# EAGLE library part ATMEGA328PB (library Bulkhead Flight Computer)
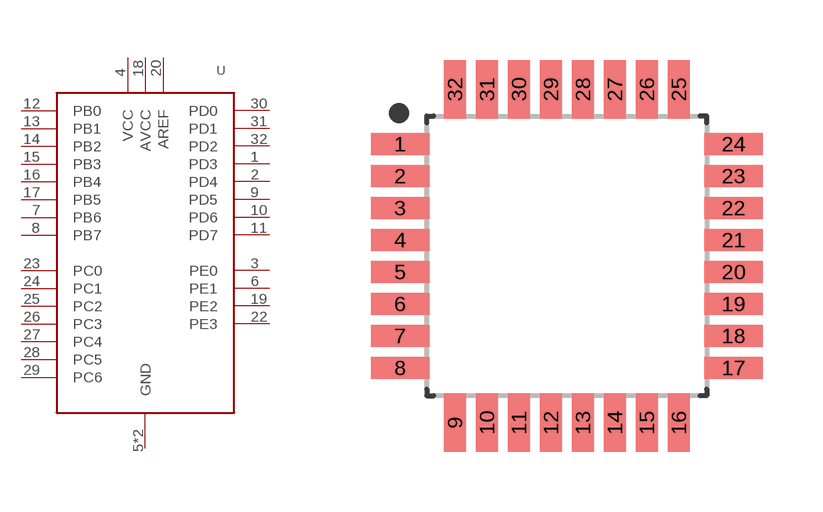
[diagram p7: symbol with the pads of QFP80P900X900X120-32; footprint QFP80P900X900X120-32]

Designator prefix U

## ATMEGA328PB32-TQFP  [QFP80P900X900X120-32]
1  PD3
2  PD4
3  PE0
4  VCC  pwr
5  GND  pas
6  PE1
7  PB6
8  PB7
9  PD5
10  PD6
11  PD7
12  PB0
13  PB1
14  PB2
15  PB3
16  PB4
17  PB5
18  AVCC  pwr
19  PE2
20  AREF  pwr
21  GND  pas
22  PE3
23  PC0
24  PC1
25  PC2
26  PC3
27  PC4
28  PC5
29  PC6
30  PD0
31  PD1
32  PD2

## Footprint QFP80P900X900X120-32 (pad centres in mm)
32-QFP, 0.80 mm pitch, 9.00 mm span, 7.00 X 7.00 X 1.20 mm body 32-pin QFP package with 0.80 mm pitch, 9.00 mm lead span1 X 9.00 mm lead span2 with body size 7.00 X 7.00 X 1.20 mm
smd 1.469 x 0.547: 1 -4.171,2.8; 2 -4.171,2; 3 -4.171,1.2; 4 -4.171,0.4; 5 -4.171,-0.4; 6 -4.171,-1.2; 7 -4.171,-2; 8 -4.171,-2.8; 17 4.171,-2.8; 18 4.171,-2; 19 4.171,-1.2; 20 4.171,-0.4; 21 4.171,0.4; 22 4.171,1.2; 23 4.171,2; 24 4.171,2.8
smd 0.547 x 1.469: 9 -2.8,-4.171; 10 -2,-4.171; 11 -1.2,-4.171; 12 -0.4,-4.171; 13 0.4,-4.171; 14 1.2,-4.171; 15 2,-4.171; 16 2.8,-4.171; 25 2.8,4.171; 26 2,4.171; 27 1.2,4.171; 28 0.4,4.171; 29 -0.4,4.171; 30 -1.2,4.171; 31 -2,4.171; 32 -2.8,4.171